# Altium integrated library TSW-108-07-G-S-LL.IntLib: 1 symbol
Pins are listed as number, name and electrical type; pins without a type are passive.

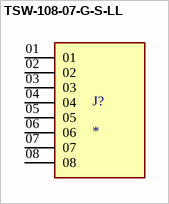
[diagram p0: symbol TSW-108-07-G-S-LL]

## TSW-108-07-G-S-LL
designator J?
MP: TSW-108-07-G-S-LL; Availability: Unavailable; Value: *; Price: None; Package: None
footprint SAMTEC_TSW-108-07-G-S-LL
pins: 01, 02, 03, 04, 05, 06, 07, 08